# Altium footprint library SparkFun-Boards.PCBLIB: 59 footprints (part 4 of 4)
Each footprint in its own frame and in the unit in brackets; x right, y up, seen from the top. Pads: shape width x height; smd on the part's side, far side on the other; paste and mask are expansions set on the pad; w line width, h text height; cw(c..) or ccw(c..) is an arc to the next point about the centre after c.
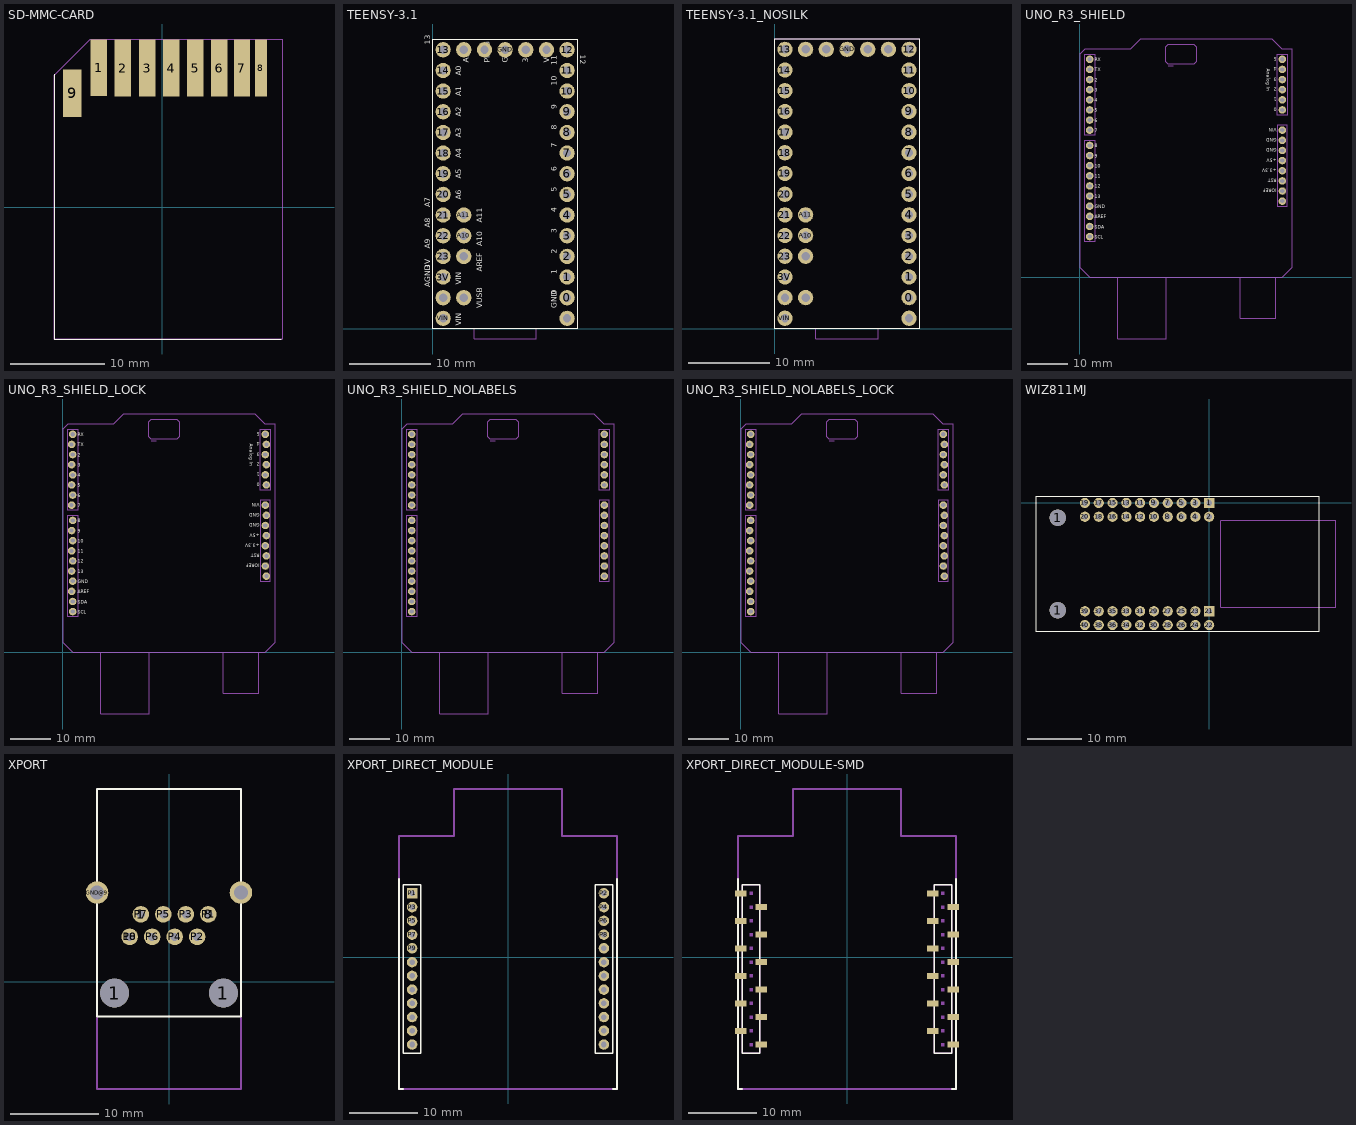
[diagram p3: the footprints below, top view; thin cyan lines are the x and y axes]

## SD-MMC-CARD [mil]
pads (9):
  rect 69x237 smd: 1(-265.54,580) 2(-165.16,579) 3(-62.99,579) 4(37,579) 5(137,579) 6(238,579)
  rect 65x237 smd: 7(332,579)
  rect 50x237 smd: 8(411,579)
  rect 79x197 smd: 9(-375.2,474)
Top Overlay:
  lines w5: -450,553 -450,-550 495,-550
Mechanical 2:
  text ">NAME" at -200,750 h24.8
Mechanical 4:
  text ">VALUE" at 250,750 h24.8
Mechanical 16:
  lines w5: -450,-550 -450,550 -300,700 500,700 500,-550 -450,-550

## TEENSY-3.1 [mil]
pads (37):
  round 74 hole 40: 0(650,150) 1(650,250) 2(650,350) 3(650,450) 3.3V(450,1350) 3V(50,250) 4(650,550) 5(650,650) 6(650,750) 7(650,850) 8(650,950) 9(650,1050) 10(650,1150) 11(650,1250) 12(650,1350) 13(50,1350) 14(50,1250) 15(50,1150) 16(50,1050) 17(50,950) 18(50,850) 19(50,750) 20(50,650) 21(50,550) 22(50,450) 23(50,350) A10(150,450) A11(150,550) A14/DAC(150,1350) AGND(50,150) AREF(150,350) GND(350,1350) GND1(650,50) PROG(250,1350) VBAT(550,1350) VIN(50,50) VUSB(150,150)
Top Overlay:
  lines w5: 0,0 0,1400 700,1400 700,0 0,0
  text "VIN" at 138,13 h27.2
  text "VIN" at 138,213 h27.2
  text "VUSB" at 238,100 h27.2
  text "AREF" at 238,275 h27.2
  text "A10" at 238,400 h27.2
  text "A11" at 238,513 h27.2
  text "A6" at 138,625 h27.2
  text "A5" at 138,725 h27.2
  text "A4" at 138,825 h27.2
  text "A3" at 138,925 h27.2
  text "A2" at 138,1025 h27.2
  text "A1" at 138,1125 h27.2
  text "A0" at 138,1225 h27.2
  text "11" at 600,1275 h27.2
  text "10" at 600,1175 h27.2
  text "9" at 600,1063 h27.2
  text "8" at 600,963 h27.2
  text "7" at 600,875 h27.2
  text "6" at 600,763 h27.2
  text "5" at 600,663 h27.2
  text "4" at 600,563 h27.2
  text "3" at 600,463 h27.2
  text "2" at 600,363 h27.2
  text "1" at 600,263 h27.2
  text "0" at 600,163 h27.2
  text "GND" at 600,100 h27.2
  text "A8" at -12.5,488 h27.2
  text "A9" at -12.5,388 h27.2
  text "AGND" at -12.5,200 h27.2
  text "PROG" at 275,1288 h27.2
  text "GND" at 363,1288 h27.2
  text "3.3V" at 463,1288 h27.2
  text "VBAT" at 563,1288 h27.2
  text "A14" at 175,1288 h27.2
  text "A7" at -12.5,588 h27.2
  text "13" at -12.5,1375 h27.2
  text "12" at 713,1325 h27.2
  text "3V" at -12.5,288 h27.2
Bottom Overlay:
  lines w5: 0,0 0,1400 700,1400 700,0 0,0
  text "A8" at -12.5,488 h27.2
  text "A9" at -12.5,388 h27.2
  text "AGND" at -12.5,200 h27.2
  text "A7" at -12.5,588 h27.2
  text "13" at -12.5,1375 h27.2
  text "3V" at -12.5,288 h27.2
  text "VIN" at 138,213 h27.2
  text "VUSB" at 238,100 h27.2
  text "VIN" at 138,13 h27.2
  text "AREF" at 238,275 h27.2
  text "A10" at 238,400 h27.2
  text "A11" at 238,513 h27.2
  text "A6" at 138,625 h27.2
  text "A5" at 138,725 h27.2
  text "A4" at 138,825 h27.2
  text "A3" at 138,925 h27.2
  text "A2" at 138,1025 h27.2
  text "A1" at 138,1125 h27.2
  text "A14" at 175,1288 h27.2
  text "PROG" at 275,1288 h27.2
  text "GND" at 363,1288 h27.2
  text "3.3V" at 463,1288 h27.2
  text "VBAT" at 563,1288 h27.2
  text "12" at 713,1325 h27.2
  text "GND" at 600,100 h27.2
  text "0" at 600,163 h27.2
  text "1" at 600,263 h27.2
  text "2" at 600,363 h27.2
  text "3" at 600,463 h27.2
  text "4" at 600,563 h27.2
  text "5" at 600,663 h27.2
  text "6" at 600,763 h27.2
  text "7" at 600,875 h27.2
  text "8" at 600,963 h27.2
  text "9" at 600,1063 h27.2
  text "10" at 600,1175 h27.2
  text "11" at 600,1275 h27.2
  text "A0" at 138,1225 h27.2
Mechanical 2:
  text ">NAME" at 200,1450 h77.5
Mechanical 4:
  text ">VALUE" at 200,-100 h77.5
Mechanical 16:
  lines w5: 200,0 500,0 ; 200,0 0,0 0,1400 700,1400 700,0 500,0 ; 200,0 200,-50 500,-50 500,0

## TEENSY-3.1_NOSILK [mil]
pads (37):
  round 74 hole 40: 0(650,150) 1(650,250) 2(650,350) 3(650,450) 3.3V(450,1350) 3V(50,250) 4(650,550) 5(650,650) 6(650,750) 7(650,850) 8(650,950) 9(650,1050) 10(650,1150) 11(650,1250) 12(650,1350) 13(50,1350) 14(50,1250) 15(50,1150) 16(50,1050) 17(50,950) 18(50,850) 19(50,750) 20(50,650) 21(50,550) 22(50,450) 23(50,350) A10(150,450) A11(150,550) A14/DAC(150,1350) AGND(50,150) AREF(150,350) GND(350,1350) GND1(650,50) PROG(250,1350) VBAT(550,1350) VIN(50,50) VUSB(150,150)
Top Overlay:
  lines w5: 0,0 0,1400 700,1400 700,0 0,0
Bottom Overlay:
  lines w5: 0,0 0,1400 700,1400 700,0 0,0
Mechanical 2:
  text ">NAME" at 200,1450 h77.5
Mechanical 4:
  text ">VALUE" at 200,-100 h77.5
Mechanical 16:
  lines w5: 200,0 500,0 ; 200,0 0,0 0,1400 700,1400 700,0 500,0 ; 200,0 200,-50 500,-50 500,0

## UNO_R3_SHIELD [mil]
pads (32):
  round 74 hole 40: 3.3V(2000,1050) 5V(2000,1150) A0(2000,1650) A1(2000,1750) A2(2000,1850) A3(2000,1950) A4(2000,2050) A5(2000,2150) AREF(100,600) D2(100,1950) D3(100,1850) D4(100,1750) D5(100,1650) D6(100,1550) D7(100,1450) D8(100,1300) D9(100,1200) D10(100,1100) D11(100,1000) D12(100,900) D13(100,800) GND@0(2000,1250) GND@1(2000,1350) GND@2(100,700) IOREF(2000,850) NC(2000,750) RES(2000,950) RX(100,2150) SCL(100,400) SDA(100,500) TX(100,2050) VIN(2000,1450)
Top Overlay:
  text "GND" at 1946,1270 h34
  text "GND" at 1946,1370 h34
  text "+5V" at 1946,1170 h34
  text "RST" at 1946,970 h34
  text "VIN" at 1946,1470 h34
  text "+3.3V" at 1946,1070 h34
  text "0" at 1946,1670 h34
  text "1" at 1946,1770 h34
  text "2" at 1946,1870 h34
  text "3" at 1946,1970 h34
  text "4" at 1946,2070 h34
  text "5" at 1946,2170 h34
  text "Analog In" at 1846,2055 h34
  text "GND" at 150,680 h34
  text "13" at 150,780 h34
  text "12" at 150,880 h34
  text "11" at 150,980 h34
  text "AREF" at 150,580 h34
  text "10" at 150,1080 h34
  text "9" at 150,1180 h34
  text "8" at 150,1280 h34
  text "7" at 150,1430 h34
  text "6" at 150,1530 h34
  text "5" at 150,1630 h34
  text "4" at 150,1730 h34
  text "3" at 150,1830 h34
  text "2" at 150,1930 h34
  text "TX" at 150,2030 h34
  text "RX" at 150,2130 h34
  text "SDA" at 150,480 h34
  text "SCL" at 150,380 h34
  text "IOREF" at 1946,870 h34
Mechanical 16:
  lines w5: 50,350 150,350 150,1350 50,1350 50,350 ; 50,1400 150,1400 150,2200 50,2200 50,1400 ; 1950,700 2050,700 2050,1500 1950,1500 1950,700 ; 1950,1600 2050,1600 2050,2200 1950,2200 1950,1600
  lines w8: 875,2080 925,2080
  lines w10: 1583,-3.94 1583,-405.51 1938,-405.51 1938,-3.94 ; 375,0 100,0 0,100 0,2200 50,2250 500,2250 600,2350 1900,2350 2000,2250 2100,2250 2100,100 2000,0 855,0 ; 375,0 855,0 ; 375,0 375,-610.24 855,-610.24 855,0 ; 850,2125 875,2100 1125,2100 1150,2125 1150,2275 1125,2300 875,2300 850,2275 850,2125
  text "RST" at 1075,2065 h17
  text "ISP" at 980,2190 h17

## UNO_R3_SHIELD_LOCK [mil]
pads (32):
  round 74 hole 40: 3.3V(2000,1050) 5V(2010,1150) A0(2010,1650) A1(2000,1750) A2(2010,1850) A3(2000,1950) A4(2010,2050) A5(2000,2150) AREF(90,600) D2(100,1950) D3(90,1850) D4(100,1750) D5(90,1650) D6(100,1550) D7(90,1450) D8(100,1300) D9(90,1200) D10(100,1100) D11(90,1000) D12(100,900) D13(90,800) GND@0(2000,1250) GND@1(2010,1350) GND@2(100,700) IOREF(2000,850) NC(2010,750) RES(2010,950) RX(100,2150) SCL(100,400) SDA(100,500) TX(90,2050) VIN(2000,1450)
Top Overlay:
  text "GND" at 1946,1270 h34
  text "GND" at 1946,1370 h34
  text "+5V" at 1946,1170 h34
  text "RST" at 1946,970 h34
  text "VIN" at 1946,1470 h34
  text "+3.3V" at 1946,1070 h34
  text "0" at 1946,1670 h34
  text "1" at 1946,1770 h34
  text "2" at 1946,1870 h34
  text "3" at 1946,1970 h34
  text "4" at 1946,2070 h34
  text "5" at 1946,2170 h34
  text "Analog In" at 1846,2055 h34
  text "GND" at 150,680 h34
  text "13" at 150,780 h34
  text "12" at 150,880 h34
  text "11" at 150,980 h34
  text "AREF" at 150,580 h34
  text "10" at 150,1080 h34
  text "9" at 150,1180 h34
  text "8" at 150,1280 h34
  text "7" at 150,1430 h34
  text "6" at 150,1530 h34
  text "5" at 150,1630 h34
  text "4" at 150,1730 h34
  text "3" at 150,1830 h34
  text "2" at 150,1930 h34
  text "TX" at 150,2030 h34
  text "RX" at 150,2130 h34
  text "SDA" at 150,480 h34
  text "SCL" at 150,380 h34
  text "IOREF" at 1946,870 h34
Mechanical 16:
  lines w5: 50,350 150,350 150,1350 50,1350 50,350 ; 50,1400 150,1400 150,2200 50,2200 50,1400 ; 1950,700 2050,700 2050,1500 1950,1500 1950,700 ; 1950,1600 2050,1600 2050,2200 1950,2200 1950,1600
  lines w8: 875,2080 925,2080
  lines w10: 1583,-3.94 1583,-405.51 1938,-405.51 1938,-3.94 ; 375,0 100,0 0,100 0,2200 50,2250 500,2250 600,2350 1900,2350 2000,2250 2100,2250 2100,100 2000,0 855,0 ; 375,0 855,0 ; 375,0 375,-610.24 855,-610.24 855,0 ; 850,2125 875,2100 1125,2100 1150,2125 1150,2275 1125,2300 875,2300 850,2275 850,2125
  text "RST" at 1075,2065 h17
  text "ISP" at 980,2190 h17

## UNO_R3_SHIELD_NOLABELS [mil]
pads (32):
  round 74 hole 40: 3.3V(2000,1050) 5V(2000,1150) A0(2000,1650) A1(2000,1750) A2(2000,1850) A3(2000,1950) A4(2000,2050) A5(2000,2150) AREF(100,600) D2(100,1950) D3(100,1850) D4(100,1750) D5(100,1650) D6(100,1550) D7(100,1450) D8(100,1300) D9(100,1200) D10(100,1100) D11(100,1000) D12(100,900) D13(100,800) GND@0(2000,1250) GND@1(2000,1350) GND@2(100,700) IOREF(2000,850) NC(2000,750) RES(2000,950) RX(100,2150) SCL(100,400) SDA(100,500) TX(100,2050) VIN(2000,1450)
Mechanical 16:
  lines w5: 50,350 150,350 150,1350 50,1350 50,350 ; 50,1400 150,1400 150,2200 50,2200 50,1400 ; 1950,700 2050,700 2050,1500 1950,1500 1950,700 ; 1950,1600 2050,1600 2050,2200 1950,2200 1950,1600
  lines w8: 875,2080 925,2080
  lines w10: 1583,-3.94 1583,-405.51 1938,-405.51 1938,-3.94 ; 375,0 100,0 0,100 0,2200 50,2250 500,2250 600,2350 1900,2350 2000,2250 2100,2250 2100,100 2000,0 855,0 ; 375,0 855,0 ; 375,0 375,-610.24 855,-610.24 855,0 ; 850,2125 875,2100 1125,2100 1150,2125 1150,2275 1125,2300 875,2300 850,2275 850,2125
  text "RST" at 1075,2065 h17
  text "ISP" at 980,2190 h31

## UNO_R3_SHIELD_NOLABELS_LOCK [mil]
pads (32):
  round 74 hole 40: 3.3V(2000,1050) 5V(2010,1150) A0(2010,1650) A1(2000,1750) A2(2010,1850) A3(2000,1950) A4(2010,2050) A5(2000,2150) AREF(90,600) D2(100,1950) D3(90,1850) D4(100,1750) D5(90,1650) D6(100,1550) D7(90,1450) D8(100,1300) D9(90,1200) D10(100,1100) D11(90,1000) D12(100,900) D13(90,800) GND@0(2000,1250) GND@1(2010,1350) GND@2(100,700) IOREF(2000,850) NC(2010,750) RES(2010,950) RX(100,2150) SCL(100,400) SDA(100,500) TX(90,2050) VIN(2000,1450)
Mechanical 16:
  lines w5: 50,350 150,350 150,1350 50,1350 50,350 ; 50,1400 150,1400 150,2200 50,2200 50,1400 ; 1950,700 2050,700 2050,1500 1950,1500 1950,700 ; 1950,1600 2050,1600 2050,2200 1950,2200 1950,1600
  lines w8: 875,2080 925,2080
  lines w10: 1583,-3.94 1583,-405.51 1938,-405.51 1938,-3.94 ; 375,0 100,0 0,100 0,2200 50,2250 500,2250 600,2350 1900,2350 2000,2250 2100,2250 2100,100 2000,0 855,0 ; 375,0 855,0 ; 375,0 375,-610.24 855,-610.24 855,0 ; 850,2125 875,2100 1125,2100 1150,2125 1150,2275 1125,2300 875,2300 850,2275 850,2125
  text "RST" at 1075,2065 h17
  text "ISP" at 980,2190 h17

## WIZ811MJ [mil]
pads (42):
  round 119 hole 119: 1(-1096.85,-776.77) 1(-1096.85,-107.48)
  rect 74x74 hole 41: 1(0,0) 21(0,-784.25)
  round 74 hole 41: 2(0,-100) 3(-100,0) 4(-100,-100) 5(-200,0) 6(-200,-100) 7(-300,0) 8(-300,-100) 9(-400,0) 10(-400,-100) 11(-500,0) 12(-500,-100) 13(-600,0) 14(-600,-100) 15(-700,0) 16(-700,-100) 17(-800,0) 18(-800,-100) 19(-900,0) 20(-900,-100) 22(0,-884.25) 23(-100,-784.25) 24(-100,-884.25) 25(-200,-784.25) 26(-200,-884.25) 27(-300,-784.25) 28(-300,-884.25) 29(-400,-784.25) 30(-400,-884.25) 31(-500,-784.25) 32(-500,-884.25) 33(-600,-784.25) 34(-600,-884.25) 35(-700,-784.25) 36(-700,-884.25) 37(-800,-784.25) 38(-800,-884.25) 39(-900,-784.25) 40(-900,-884.25)
Top Overlay:
  lines w5: -1254.33,-934.25 -1254.33,50 793,50 793,-934.25 -1254.33,-934.25
Mechanical 2:
  text ">Name" at -1204.33,-284.25 h108.5
Mechanical 4:
  text ">Value" at -1204.33,-684.25 h108.5
Mechanical 16:
  lines w5: 85,-755.12 919,-755.12 919,-129.13 85,-129.13 85,-755.12
  text "J1" at 45,-68.11 h77.5
  text "J2" at 45,-855.51 h77.5
  text "WIZnet" at 242,-28.74 h77.5
  text "WIZ811MJ REV1.0" at 136,-918.5 h77.5

## XPORT [mil]
pads (15):
  round 128 hole 128: 1(-242,-50) 1(242,-50)
  round 74 hole 35: 1(-125,300) 8(175,300) 10(-175,200) P1(175,300) P2(125,200) P3(75,300) P4(25,200) P5(-25,300) P6(-75,200) P7(-125,300) P8(-175,200)
  round 100 hole 63: GND@9(-320,397) GND@10(320,397)
Top Overlay:
  lines w8: -320,-155 -320,858 320,858 320,-155 -320,-155
Mechanical 16:
  lines w8: -320,-155 -320,-477 320,-477 320,-155

## XPORT_DIRECT_MODULE [mil]
pads (24):
  rect 60x60 hole 32: P1(-550,367)
  round 60 hole 32: P2(550,367) P3(-550,288) P4(550,288) P5(-550,209) P6(550,209) P7(-550,130) P8(550,130) P9(-550,52) P10(550,52) P11(-550,-27.56) P12(550,-27.56) P13(-550,-106.3) P14(550,-106.3) P15(-550,-185.04) P16(550,-185.04) P17(-550,-263.78) P18(550,-263.78) P19(-550,-342.52) P20(550,-342.52) P21(-550,-421.26) P22(550,-421.26) P23(-550,-500) P24(550,-500)
Top Overlay:
  lines w8: -599.21,-549.21 -599.21,416 -500.79,416 -500.79,-549.21 -599.21,-549.21 ; 501,-549.21 501,416 600,416 600,-549.21 501,-549.21
  lines w10: -625,450 -625,-755 -600,-755 ; 600,-755 625,-755 625,450
Mechanical 16:
  region: -540,-352.52 -540,-332.52 -560,-332.52 -560,-352.52
  region: -540,-431.26 -540,-411.26 -560,-411.26 -560,-431.26
  region: -540,-510 -540,-490 -560,-490 -560,-510
  region: -540,-273.78 -540,-253.78 -560,-253.78 -560,-273.78
  region: -540,-195.04 -540,-175.04 -560,-175.04 -560,-195.04
  region: -540,-116.3 -540,-96.3 -560,-96.3 -560,-116.3
  region: -540,-37.56 -540,-17.56 -560,-17.56 -560,-37.56
  region: -540,42 -540,62 -560,62 -560,42
  region: -540,120 -540,140 -560,140 -560,120
  region: -540,199 -540,219 -560,219 -560,199
  region: -540,278 -540,298 -560,298 -560,278
  region: -540,357 -540,377 -560,377 -560,357
  region: 560,-352.52 560,-332.52 540,-332.52 540,-352.52
  region: 560,-431.26 560,-411.26 540,-411.26 540,-431.26
  region: 560,-510 560,-490 540,-490 540,-510
  region: 560,-273.78 560,-253.78 540,-253.78 540,-273.78
  region: 560,-195.04 560,-175.04 540,-175.04 540,-195.04
  region: 560,-116.3 560,-96.3 540,-96.3 540,-116.3
  region: 560,-37.56 560,-17.56 540,-17.56 540,-37.56
  region: 560,42 560,62 540,62 540,42
  region: 560,120 560,140 540,140 540,120
  region: 560,199 560,219 540,219 540,199
  region: 560,278 560,298 540,298 540,278
  region: 560,357 560,377 540,377 540,357
  lines w10: -625,-755 625,-755 625,695 310,695 310,965 -310,965 -310,695 -625,695 -625,-755

## XPORT_DIRECT_MODULE-SMD [mil]
pads (24):
  rect 67x34 smd: P1(-609.13,366) P2(491,366) P3(-491.02,288) P4(609,288) P5(-609.13,209) P6(491,209) P7(-491.02,130) P8(609,130) P9(-609.13,51) P10(491,51) P11(-491.02,-27.82) P12(609,-27.82) P13(-609.13,-106.56) P14(491,-106.56) P15(-491.02,-185.3) P16(609,-185.3) P17(-609.13,-264.04) P18(491,-264.04) P19(-491.02,-342.78) P20(609,-342.78) P21(-609.13,-421.52) P22(491,-421.52) P23(-491.02,-500.26) P24(609,-500.26)
Top Overlay:
  lines w8: -599.28,-527.82 -599.28,-549.47 -500.86,-549.47 -500.86,-527.82 ; -599.28,390 -599.28,416 -500.86,416 -500.86,390 ; 501,-527.82 501,-549.47 600,-549.47 600,-527.82 ; 501,390 501,416 ; 600,390 600,416 ; 501,416 501,-549.21 600,-549.21 600,416 ; 501,416 600,416 ; 501,416 600,416 ; -599.21,-549.21 -599.21,416 -500.79,416 -500.79,-549.21 -599.21,-549.21
  lines w10: -625,450 -625,-755 -600,-755 ; 600,-755 625,-755 625,450
Mechanical 2:
  text ">Name" at -467,-479 h24.8
  text ">Name" at 633,-479 h24.8
Mechanical 4:
  text ">Value" at -467,-529 h24.8
  text ">Value" at 633,-529 h24.8
Mechanical 16:
  region: -540,-352.52 -540,-332.52 -560,-332.52 -560,-352.52
  region: -540,-431.26 -540,-411.26 -560,-411.26 -560,-431.26
  region: -540,-510 -540,-490 -560,-490 -560,-510
  region: -540,-273.78 -540,-253.78 -560,-253.78 -560,-273.78
  region: -540,-195.04 -540,-175.04 -560,-175.04 -560,-195.04
  region: -540,-116.3 -540,-96.3 -560,-96.3 -560,-116.3
  region: -540,-37.56 -540,-17.56 -560,-17.56 -560,-37.56
  region: -540,42 -540,62 -560,62 -560,42
  region: -540,120 -540,140 -560,140 -560,120
  region: -540,199 -540,219 -560,219 -560,199
  region: -540,278 -540,298 -560,298 -560,278
  region: -540,357 -540,377 -560,377 -560,357
  region: 560,-352.52 560,-332.52 540,-332.52 540,-352.52
  region: 560,-431.26 560,-411.26 540,-411.26 540,-431.26
  region: 560,-510 560,-490 540,-490 540,-510
  region: 560,-273.78 560,-253.78 540,-253.78 540,-273.78
  region: 560,-195.04 560,-175.04 540,-175.04 540,-195.04
  region: 560,-116.3 560,-96.3 540,-96.3 540,-116.3
  region: 560,-37.56 560,-17.56 540,-17.56 540,-37.56
  region: 560,42 560,62 540,62 540,42
  region: 560,120 560,140 540,140 540,120
  region: 560,199 560,219 540,219 540,199
  region: 560,278 560,298 540,298 540,278
  region: 560,357 560,377 540,377 540,357
  lines w8: -599.28,-391.97 -599.28,416 -500.86,416 -500.86,-391.97 ; -599.28,258 -599.28,-549.47 -500.86,-549.47 -500.86,258 ; 501,-391.97 501,416 600,416 600,-391.97 ; 501,258 501,-549.47 600,-549.47 600,258
  lines w10: -625,-755 625,-755 625,695 310,695 310,965 -310,965 -310,695 -625,695 -625,-755